# EAGLE library part DS2482-100 (library debauer_ics)
I2C to 1-Wire Host Adapter/Line Driver This device is a onewire host and I2C interface in one chip. It provides the complete DC/AC requirements for onewire communication, including overdrive speed mode, but, unlike the DS2480B chip, no 12V EPROM programming. Notes: For overdrive speed and 5V EEPROM programming, an external active pullup circuit must be connected to the 1W, VDD and PCT pin. See the datasheet for details. The lower two I2C adress bits of the chip can be selected by external pins, so up to 4 chips may be connected to the same I2C bus. Author: Orginal device and description from Giovanni Varasano <giovanni.varasano@fastwebnet.it> Improved by Jan Kandziora <jjj@gmx.de>
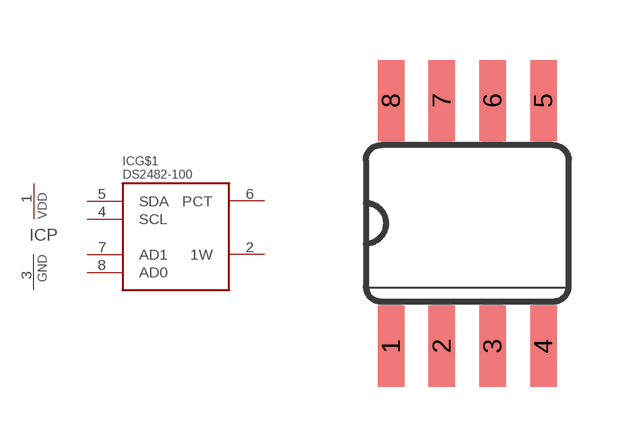
[diagram p41: symbol with the pads of SO08; footprint SO08]

Designator prefix IC; gates G$1=DS2482-100 P=VDD-GND

## DS2482-100S  [SO08]
1  P:VDD  pwr
2  G$1:1W  oc
3  P:GND  pwr
4  G$1:SCL  in
5  G$1:SDA
6  G$1:PCT  out
7  G$1:AD1  in
8  G$1:AD0  in

## Footprint SO08 (pad centres in mm)
Small Outline Package
smd 0.66 x 2.032: 1 -1.905,-3.073; 2 -0.635,-3.073; 3 0.635,-3.073; 4 1.905,-3.073; 5 1.905,3.073; 6 0.635,3.073; 7 -0.635,3.073; 8 -1.905,3.073